# Altium footprint library IC_SMT.PcbLib: 81 footprints (part 3 of 6)
Each footprint in its own frame and in the unit in brackets; x right, y up, seen from the top. Pads: shape width x height; smd on the part's side, far side on the other; paste and mask are expansions set on the pad; w line width, h text height; cw(c..) or ccw(c..) is an arc to the next point about the centre after c.
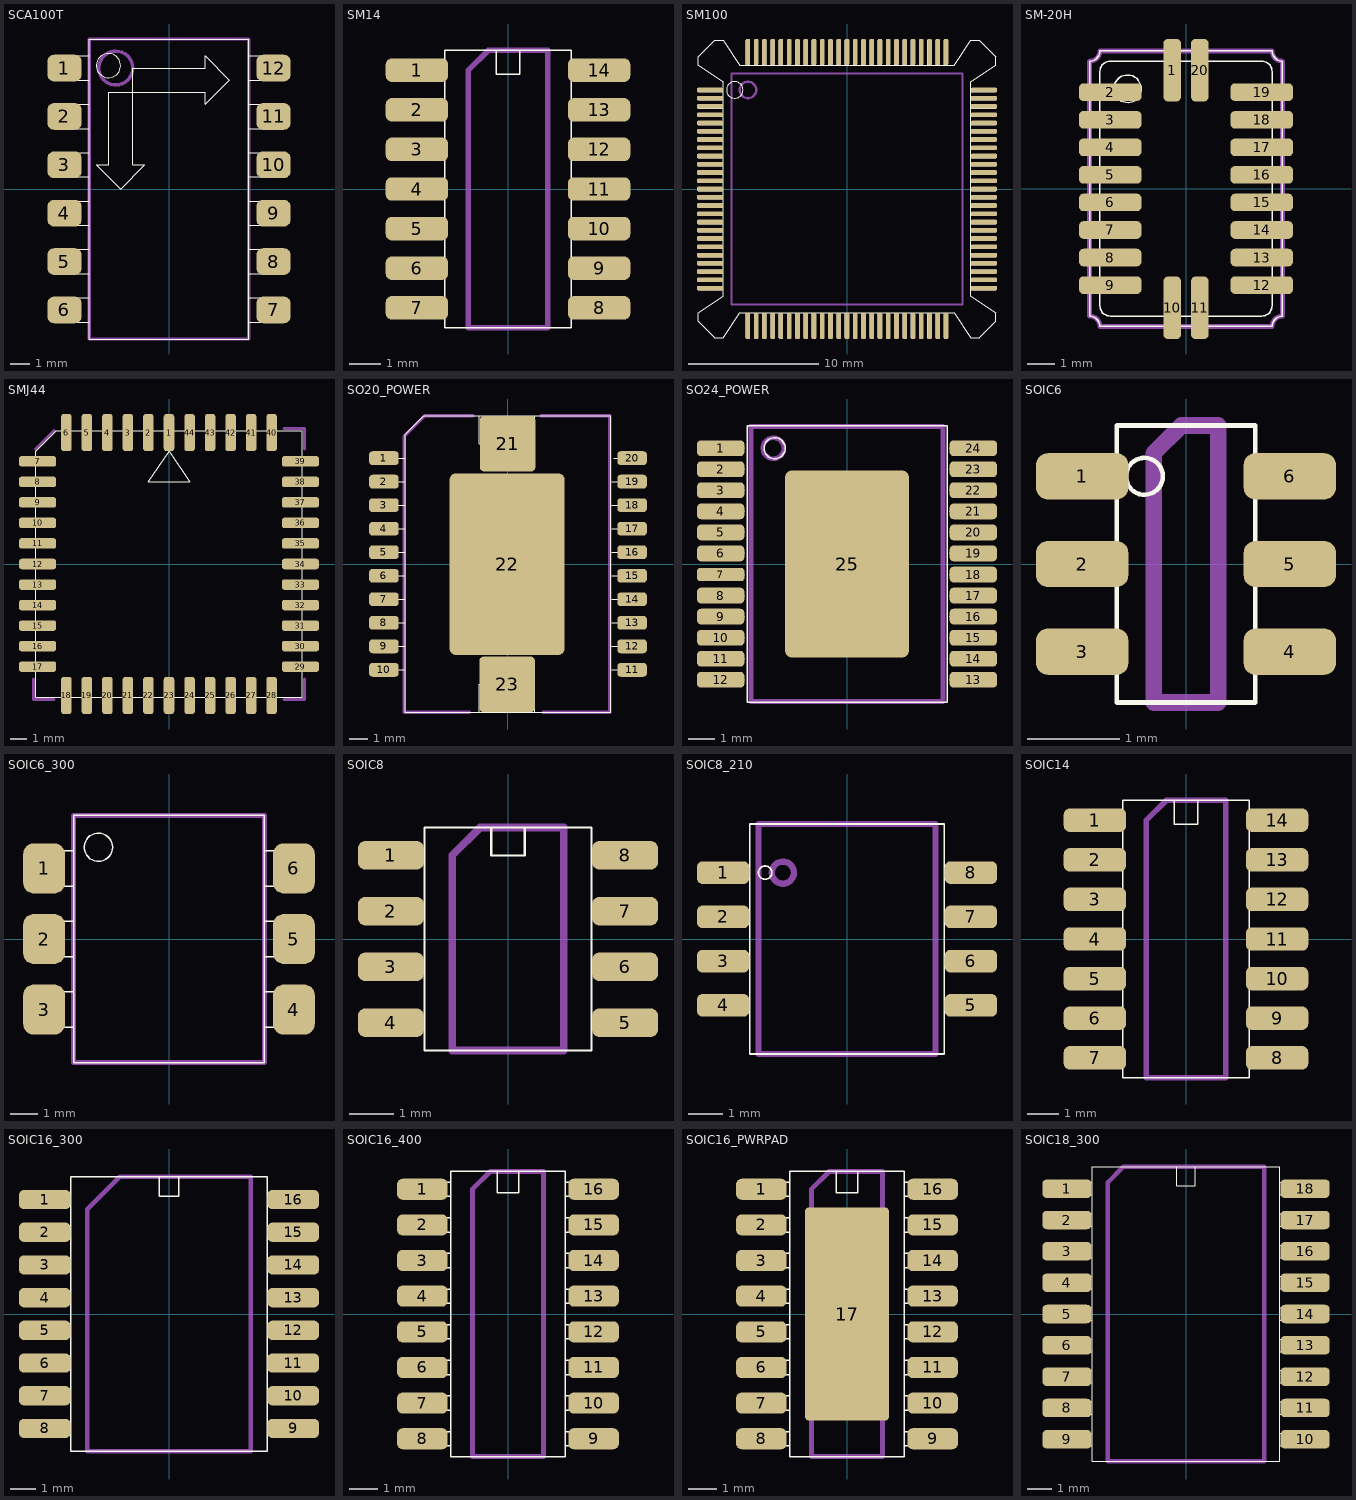
[diagram p2: the footprints below, top view; thin cyan lines are the x and y axes]

## SCA100T [mm]
height 5.08
pads (12):
  rrect50% 1.8x1.4 smd paste+0: 1(-5.486,6.35) 2(-5.486,3.81) 3(-5.486,1.27) 4(-5.486,-1.27) 5(-5.486,-3.81) 6(-5.486,-6.35) 7(5.486,-6.35) 8(5.486,-3.81) 9(5.486,-1.27) 10(5.486,1.27) 11(5.486,3.81) 12(5.486,6.35)
Top Overlay:
  circle w0.05: c-3.175,6.477 r0.635
  lines w0.05: -4.953,-6.604 -5.715,-6.604 -5.715,-6.096 -4.953,-6.096 ; -4.953,-4.064 -5.715,-4.064 -5.715,-3.556 -4.953,-3.556 ; -4.953,-1.524 -5.715,-1.524 -5.715,-1.016 -4.953,-1.016 ; -4.953,1.016 -5.715,1.016 -5.715,1.524 -4.953,1.524 ; -4.953,3.556 -5.715,3.556 -5.715,4.064 -4.953,4.064 ; -4.953,6.096 -5.715,6.096 -5.715,6.604 -4.953,6.604 ; -4.191,-6.985 -4.953,-6.985 -4.953,-5.715 -4.191,-5.715 ; -4.191,-4.445 -4.953,-4.445 -4.953,-3.175 -4.191,-3.175 ; -4.191,-1.905 -4.953,-1.905 -4.953,-0.635 -4.191,-0.635 ; -4.191,0.635 -4.953,0.635 -4.953,1.905 -4.191,1.905 ; -4.191,3.175 -4.953,3.175 -4.953,4.445 -4.191,4.445 ; -4.191,5.715 -4.953,5.715 -4.953,6.985 -4.191,6.985 ; 4.191,-6.985 4.953,-6.985 4.953,-5.715 4.191,-5.715 ; 4.191,-4.445 4.953,-4.445 4.953,-3.175 4.191,-3.175 ; 4.191,-1.905 4.953,-1.905 4.953,-0.635 4.191,-0.635 ; 4.191,0.635 4.953,0.635 4.953,1.905 4.191,1.905 ; 4.191,3.175 4.953,3.175 4.953,4.445 4.191,4.445 ; 4.191,5.715 4.953,5.715 4.953,6.985 4.191,6.985 ; 4.953,-6.604 5.715,-6.604 5.715,-6.096 4.953,-6.096 ; 4.953,-4.064 5.715,-4.064 5.715,-3.556 4.953,-3.556 ; 4.953,-1.524 5.715,-1.524 5.715,-1.016 4.953,-1.016 ; 4.953,1.016 5.715,1.016 5.715,1.524 4.953,1.524 ; 4.953,3.556 5.715,3.556 5.715,4.064 4.953,4.064 ; 4.953,6.096 5.715,6.096 5.715,6.604 4.953,6.604 ; -1.905,5.08 -1.905,1.27 -1.27,1.27 -2.54,0 -3.81,1.27 -3.175,1.27 -3.175,5.08 -1.905,5.08 ; -1.905,5.08 -1.905,6.35 1.905,6.35 1.905,6.985 3.175,5.715 1.905,4.445 1.905,5.08 -1.905,5.08 ; -4.191,-7.874 -4.191,7.874 4.191,7.874 4.191,-7.874 -4.191,-7.874
Comp Silk:
  circle w0.18: c-2.794,6.35 r0.889
  lines w0.18: -4.191,-7.874 -4.191,7.874 4.191,7.874 4.191,-7.874 -4.191,-7.874
  text ".Designator" at -1.524,-7.112 h1.5

## SM14 [mm]
height 1.905
pads (14):
  rrect50% 2x0.75 smd paste+0: 1(-2.921,3.81) 2(-2.921,2.54) 3(-2.921,1.27) 4(-2.921,0) 5(-2.921,-1.27) 6(-2.921,-2.54) 7(-2.921,-3.81) 8(2.921,-3.81) 9(2.921,-2.54) 10(2.921,-1.27) 11(2.921,0) 12(2.921,1.27) 13(2.921,2.54) 14(2.921,3.81)
Top Overlay:
  lines w0.05: -2.032,-4.064 -3.175,-4.064 -3.175,-3.556 -2.032,-3.556 ; -2.032,-2.794 -3.175,-2.794 -3.175,-2.286 -2.032,-2.286 ; -2.032,-1.524 -3.175,-1.524 -3.175,-1.016 -2.032,-1.016 ; -2.032,-0.254 -3.175,-0.254 -3.175,0.254 -2.032,0.254 ; -2.032,1.016 -3.175,1.016 -3.175,1.524 -2.032,1.524 ; -2.032,2.286 -3.175,2.286 -3.175,2.794 -2.032,2.794 ; -2.032,3.556 -3.175,3.556 -3.175,4.064 -2.032,4.064 ; -0.381,4.445 -0.381,3.683 0.381,3.683 0.381,4.445 ; 2.032,-4.064 3.175,-4.064 3.175,-3.556 2.032,-3.556 ; 2.032,-2.794 3.175,-2.794 3.175,-2.286 2.032,-2.286 ; 2.032,-1.524 3.175,-1.524 3.175,-1.016 2.032,-1.016 ; 2.032,-0.254 3.175,-0.254 3.175,0.254 2.032,0.254 ; 2.032,1.016 3.175,1.016 3.175,1.524 2.032,1.524 ; 2.032,2.286 3.175,2.286 3.175,2.794 2.032,2.794 ; 2.032,3.556 3.175,3.556 3.175,4.064 2.032,4.064 ; -2.032,-4.445 -2.032,4.445 2.032,4.445 2.032,-4.445 -2.032,-4.445
Comp Silk:
  lines w0.18: -1.27,-4.445 1.27,-4.445 1.27,4.445 -0.635,4.445 -1.27,3.81 -1.27,-4.445
  text ".Designator" at -0.762,-4.064 h1.5

## SM100 [mm]
height 2.54
pads (100):
  rrect50% 2x0.35 smd paste+0: 1(-10.541,7.62) 2(-10.541,6.985) 3(-10.541,6.35) 4(-10.541,5.715) 5(-10.541,5.08) 6(-10.541,4.445) 7(-10.541,3.81) 8(-10.541,3.175) 9(-10.541,2.54) 10(-10.541,1.905) 11(-10.541,1.27) 12(-10.541,0.635) 13(-10.541,0) 14(-10.541,-0.635) 15(-10.541,-1.27) 16(-10.541,-1.905) 17(-10.541,-2.54) 18(-10.541,-3.175) 19(-10.541,-3.81) 20(-10.541,-4.445) 21(-10.541,-5.08) 22(-10.541,-5.715) 23(-10.541,-6.35) 24(-10.541,-6.985) 25(-10.541,-7.62) 51(10.541,-7.62) 52(10.541,-6.985) 53(10.541,-6.35) 54(10.541,-5.715) 55(10.541,-5.08) 56(10.541,-4.445) 57(10.541,-3.81) 58(10.541,-3.175) 59(10.541,-2.54) 60(10.541,-1.905) 61(10.541,-1.27) 62(10.541,-0.635) 63(10.541,0) 64(10.541,0.635) 65(10.541,1.27) 66(10.541,1.905) 67(10.541,2.54) 68(10.541,3.175) 69(10.541,3.81) 70(10.541,4.445) 71(10.541,5.08) 72(10.541,5.715) 73(10.541,6.35) 74(10.541,6.985) 75(10.541,7.62)
  rrect50% 0.35x2 smd paste+0: 26(-7.62,-10.541) 27(-6.985,-10.541) 28(-6.35,-10.541) 29(-5.715,-10.541) 30(-5.08,-10.541) 31(-4.445,-10.541) 32(-3.81,-10.541) 33(-3.175,-10.541) 34(-2.54,-10.541) 35(-1.905,-10.541) 36(-1.27,-10.541) 37(-0.635,-10.541) 38(0,-10.541) 39(0.635,-10.541) 40(1.27,-10.541) 41(1.905,-10.541) 42(2.54,-10.541) 43(3.175,-10.541) 44(3.81,-10.541) 45(4.445,-10.541) 46(5.08,-10.541) 47(5.715,-10.541) 48(6.35,-10.541) 49(6.985,-10.541) 50(7.62,-10.541) 76(7.62,10.541) 77(6.985,10.541) 78(6.35,10.541) 79(5.715,10.541) 80(5.08,10.541) 81(4.445,10.541) 82(3.81,10.541) 83(3.175,10.541) 84(2.54,10.541) 85(1.905,10.541) 86(1.27,10.541) 87(0.635,10.541) 88(0,10.541) 89(-0.635,10.541) 90(-1.27,10.541) 91(-1.905,10.541) 92(-2.54,10.541) 93(-3.175,10.541) 94(-3.81,10.541) 95(-4.445,10.541) 96(-5.08,10.541) 97(-5.715,10.541) 98(-6.35,10.541) 99(-6.985,10.541) 100(-7.62,10.541)
Top Overlay:
  drawing of 326 lines, arcs and shapes, not listed
Comp Silk:
  lines w0.18: -8.89,-8.89 8.89,-8.89 8.89,8.89 -8.89,8.89 -8.89,-8.89 ; -8.255,7.62 ccw(c-7.62,7.62) -6.985,7.62 ccw(c-7.62,7.62) -8.255,7.62
  text ".Designator" at -6.985,4.953 h1.5

## SM-20H [mm]
height 2.032
pads (20):
  rrect50% 0.65x2.3 smd paste+0: 1(-0.508,4.369) 10(-0.508,-4.394) 11(0.508,-4.394) 20(0.508,4.369)
  rrect50% 2.3x0.65 smd paste+0: 2(-2.794,3.556) 3(-2.794,2.54) 4(-2.794,1.524) 5(-2.794,0.508) 6(-2.794,-0.508) 7(-2.794,-1.524) 8(-2.794,-2.54) 9(-2.794,-3.556) 12(2.794,-3.556) 13(2.794,-2.54) 14(2.794,-1.524) 15(2.794,-0.508) 16(2.794,0.508) 17(2.794,1.524) 18(2.794,2.54) 19(2.794,3.556)
Top Overlay:
  circle w0.05: c-2.159,3.683 r0.508
  lines w0.05: -3.556,-4.699 cw(c-3.556,-5.08) -3.175,-5.08 3.175,-5.08 cw(c3.556,-5.08) 3.556,-4.699 3.556,4.699 cw(c3.556,5.08) 3.175,5.08 -3.175,5.08 cw(c-3.556,5.08) -3.556,4.699 -3.556,-4.699 ; -3.175,-4.318 ccw(c-2.794,-4.318) -2.794,-4.699 2.794,-4.699 ccw(c2.794,-4.318) 3.175,-4.318 3.175,4.318 ccw(c2.794,4.318) 2.794,4.699 -2.794,4.699 ccw(c-2.794,4.318) -3.175,4.318 -3.175,-4.318
Comp Silk:
  lines w0.18: -3.556,-4.699 cw(c-3.556,-5.08) -3.175,-5.08 3.175,-5.08 cw(c3.556,-5.08) 3.556,-4.699 3.556,4.699 cw(c3.556,5.08) 3.175,5.08 -3.175,5.08 cw(c-3.556,5.08) -3.556,4.699 -3.556,-4.699
  text ".Designator" at -1.143,-3.81 h1.5

## SMJ44 [mm]
height 4.572
pads (44):
  rrect50% 0.65x2.3 smd paste+0: 1(0,8.128) 2(-1.27,8.128) 3(-2.54,8.128) 4(-3.81,8.128) 5(-5.08,8.128) 6(-6.35,8.128) 18(-6.35,-8.128) 19(-5.08,-8.128) 20(-3.81,-8.128) 21(-2.54,-8.128) 22(-1.27,-8.128) 23(0,-8.128) 24(1.27,-8.128) 25(2.54,-8.128) 26(3.81,-8.128) 27(5.08,-8.128) 28(6.35,-8.128) 40(6.35,8.128) 41(5.08,8.128) 42(3.81,8.128) 43(2.54,8.128) 44(1.27,8.128)
  rrect50% 2.3x0.65 smd paste+0: 7(-8.128,6.35) 8(-8.128,5.08) 9(-8.128,3.81) 10(-8.128,2.54) 11(-8.128,1.27) 12(-8.128,0) 13(-8.128,-1.27) 14(-8.128,-2.54) 15(-8.128,-3.81) 16(-8.128,-5.08) 17(-8.128,-6.35) 29(8.128,-6.35) 30(8.128,-5.08) 31(8.128,-3.81) 32(8.128,-2.54) 33(8.128,-1.27) 34(8.128,0) 35(8.128,1.27) 36(8.128,2.54) 37(8.128,3.81) 38(8.128,5.08) 39(8.128,6.35)
Top Overlay:
  lines w0.05: -8.255,-8.255 -8.255,6.985 -6.985,8.255 8.255,8.255 8.255,-8.255 -8.255,-8.255 ; -1.27,5.08 0,6.985 1.27,5.08 -1.27,5.08
Comp Silk:
  lines w0.18: -8.382,-7.112 -8.382,-8.382 -7.112,-8.382 ; -8.255,7.112 -7.112,8.255 ; 7.112,-8.382 8.382,-8.382 8.382,-7.112 ; 7.112,8.382 8.382,8.382 8.382,7.112
  text ".Designator" at -6.223,5.08 h1.5

## SO20_POWER [mm] "ST Micro Jedec MO-166 Rev. 1"
height 3.6
pads (23):
  rrect50% 1.6x0.75 smd: 1(-6.7,5.715) 2(-6.7,4.445) 3(-6.7,3.175) 4(-6.7,1.905) 5(-6.7,0.635) 6(-6.7,-0.635) 7(-6.7,-1.905) 8(-6.7,-3.175) 9(-6.7,-4.445) 10(-6.7,-5.715) 11(6.7,-5.715) 12(6.7,-4.445) 13(6.7,-3.175) 14(6.7,-1.905) 15(6.7,-0.635) 16(6.7,0.635) 17(6.7,1.905) 18(6.7,3.175) 19(6.7,4.445) 20(6.7,5.715)
  rrect15% 3x3 smd: 21(-0.025,6.5) 23(-0.05,-6.5)
  rrect10% 6.2x9.8 smd: 22(-0.05,-0.01)
Top Overlay:
  lines w0.05: -6.7,1.905 -6.695,1.9 ; -6.6,-5.715 -5.6,-5.715 ; -6.6,-4.445 -5.6,-4.445 ; -6.6,-3.175 -5.6,-3.175 ; -6.6,-1.905 -5.6,-1.905 ; -6.6,-0.635 -5.6,-0.635 ; -6.6,0.635 -5.6,0.635 ; -6.6,3.175 -5.6,3.175 ; -6.6,4.445 -5.6,4.445 ; -6.6,5.715 -5.6,5.715 ; -6.345,1.9 -5.855,1.9 ; -5.955,1.9 -5.95,1.905 ; -5.85,1.905 -5.6,1.905 ; 5.6,-5.715 6.6,-5.715 ; 5.6,-4.445 6.6,-4.445 ; 5.6,-3.175 6.6,-3.175 ; 5.6,-1.905 6.6,-1.905 ; 5.6,-0.635 6.6,-0.635 ; 5.6,0.635 6.6,0.635 ; 5.6,1.905 6.6,1.905 ; 5.6,3.175 6.6,3.175 ; 5.6,4.445 6.6,4.445 ; 5.7,5.715 6.7,5.715 ; -1.55,-8 -1.55,-6.5 1.45,-6.5 1.45,-8 ; -1.55,-8 -5.55,-8 -5.55,7 -4.55,8 -1.55,8 ; -1.55,-8 1.45,-8 ; -1.55,8 -1.55,6.5 1.45,6.5 1.45,8 ; -1.55,8 1.45,8 ; 1.45,-8 5.55,-8 5.55,8 1.45,8
Top Solder:
  rectangle: -3.2,-5 3.1,5
  rectangle: -1.7,-8.1 1.6,-4.9
  rectangle: -1.6,4.9 1.6,8.1
Comp Silk:
  lines w0.18: -2.1,-8 -5.6,-8 -5.6,-6.4 -5.6,6.9 -5.5,7 -4.5,8 -1.9,8 ; 1.8,8 5.5,8 5.5,-8 1.9,-8
  text ".Designator" at -6.8,-0.3 h1.5

## SO24_POWER [mm] "ST Micro, Rev. 1"
height 2.47
pads (25):
  rrect50% 1.8x0.6 smd mask+0.065: 1(-4.8,4.4) 2(-4.8,3.6) 3(-4.8,2.8) 4(-4.8,2) 5(-4.8,1.2) 6(-4.8,0.4) 8(-4.8,-1.2) 9(-4.8,-2) 10(-4.8,-2.8) 11(-4.8,-3.6) 12(-4.8,-4.4) 13(4.8,-4.4) 14(4.8,-3.6) 15(4.8,-2.8) 16(4.8,-2) 17(4.8,-1.2) 18(4.8,-0.4) 19(4.8,0.4) 20(4.8,1.2) 21(4.8,2) 22(4.8,2.8) 23(4.8,3.6) 24(4.8,4.4)
  rrect50% 1.8x0.51 smd mask+0.065: 7(-4.8,-0.4)
  rrect10% 4.7x7.1 smd mask+0.065: 25(0,0)
Top Overlay:
  circle w0.05: c-2.75,4.4 r0.4
  lines w0.05: -4.45,-4.4 -3.9,-4.4 ; -4.45,-3.6 -3.9,-3.6 ; -4.45,-2.8 -3.9,-2.8 ; -4.45,-2 -3.9,-2 ; -4.45,-1.2 -3.9,-1.2 ; -4.45,-0.4 -3.9,-0.4 ; -4.45,0.4 -3.9,0.4 ; -4.45,1.2 -3.9,1.2 ; -4.45,2 -3.9,2 ; -4.45,2.8 -3.9,2.8 ; -4.45,3.6 -3.9,3.6 ; -4.45,4.4 -3.9,4.4 ; 3.9,-4.4 4.45,-4.4 ; 3.9,-3.6 4.45,-3.6 ; 3.9,-2.8 4.45,-2.8 ; 3.9,-2 4.45,-2 ; 3.9,-1.2 4.45,-1.2 ; 3.9,-0.4 4.45,-0.4 ; 3.9,0.4 4.45,0.4 ; 3.9,1.2 4.45,1.2 ; 3.9,2 4.45,2 ; 3.9,2.8 4.45,2.8 ; 3.9,3.6 4.45,3.6 ; 3.9,4.4 4.45,4.4 ; -3.8,-5.25 3.8,-5.25 3.8,5.25 -3.8,5.25 -3.8,-5.25
Comp Silk:
  circle w0.18: c-2.8,4.4 r0.4
  lines w0.18: -3.675,5.225 3.65,5.225 3.65,-5.225 -3.65,-5.225 -3.65,5.225
  text ".Designator" at -3.4,-0.425 h1.5

## SOIC6 [mm]
height 1.5
pads (6):
  rrect50% 1x0.5 smd paste+0: 1(-1.125,0.95) 2(-1.125,0) 3(-1.125,-0.95) 4(1.125,-0.95) 5(1.125,0) 6(1.125,0.95)
Top Overlay:
  circle w0.05: c-0.45,0.95 r0.2
  lines w0.05: -0.76,-1.1 -1.4,-1.1 -1.4,-0.8 -0.75,-0.8 ; -0.75,-0.15 -1.4,-0.15 -1.4,0.15 -0.75,0.15 ; -0.75,0.8 -1.4,0.8 -1.4,1.1 -0.75,1.1 ; 0.75,-1.1 1.4,-1.1 1.4,-0.8 0.75,-0.8 ; 0.75,-0.15 1.4,-0.15 1.4,0.15 0.75,0.15 ; 0.75,0.8 1.4,0.8 1.4,1.1 0.75,1.1 ; -0.75,-1.5 0.75,-1.5 0.75,1.5 -0.75,1.5 -0.75,-1.5
Comp Silk:
  lines w0.18: -0.35,-1.5 0.35,-1.5 0.35,1.5 -0.05,1.5 -0.35,1.2 -0.35,-1.5
  text ".Designator" at 0,-1.627 h1.5

## SOIC6_300 [mm]
height 5
pads (6):
  rrect50% 1.5x1.8 smd paste+0: 1(-4.496,2.54) 2(-4.496,0) 3(-4.496,-2.54) 4(4.496,-2.54) 5(4.496,0) 6(4.496,2.54)
Top Overlay:
  circle w0.05: c-2.54,3.302 r0.508
  lines w0.05: -3.429,-3.175 -3.81,-3.175 -4.318,-2.794 -4.953,-2.794 -4.953,-2.286 -4.318,-2.286 -3.81,-1.905 -3.429,-1.905 ; -3.429,-0.635 -3.81,-0.635 -4.318,-0.254 -4.953,-0.254 -4.953,0.254 -4.318,0.254 -3.81,0.635 -3.429,0.635 ; -3.429,1.905 -3.81,1.905 -4.318,2.286 -4.953,2.286 -4.953,2.794 -4.318,2.794 -3.81,3.175 -3.429,3.175 ; 3.429,-3.175 3.81,-3.175 4.318,-2.794 4.953,-2.794 4.953,-2.286 4.318,-2.286 3.81,-1.905 3.429,-1.905 ; 3.429,-0.635 3.81,-0.635 4.318,-0.254 4.953,-0.254 4.953,0.254 4.318,0.254 3.81,0.635 3.429,0.635 ; 3.429,1.905 3.81,1.905 4.318,2.286 4.953,2.286 4.953,2.794 4.318,2.794 3.81,3.175 3.429,3.175 ; -3.429,-4.445 3.429,-4.445 3.429,4.445 -3.429,4.445 -3.429,-4.445
Comp Silk:
  lines w0.18: -3.429,-4.445 3.429,-4.445 3.429,4.445 -3.429,4.445 -3.429,-4.445
  text ".Designator" at -1.27,-3.81 h1.5

## SOIC8 [mm]
height 1.1
pads (8):
  rrect50% 1.5x0.65 smd: 1(-2.667,1.905) 2(-2.667,0.635) 3(-2.667,-0.635) 4(-2.667,-1.905) 5(2.667,-1.905) 6(2.667,-0.635) 7(2.667,0.635) 8(2.667,1.905)
Top Overlay:
  lines w0.05: -1.905,-2.032 -2.667,-2.032 -2.667,-1.778 -1.905,-1.778 ; -1.905,-0.762 -2.667,-0.762 -2.667,-0.508 -1.905,-0.508 ; -1.905,0.508 -2.667,0.508 -2.667,0.762 -1.905,0.762 ; -1.905,1.778 -2.667,1.778 -2.667,2.032 -1.905,2.032 ; -0.381,2.54 -0.381,1.905 0.381,1.905 0.381,2.54 ; 1.905,-2.032 2.667,-2.032 2.667,-1.778 1.905,-1.778 ; 1.905,-0.762 2.667,-0.762 2.667,-0.508 1.905,-0.508 ; 1.905,0.508 2.667,0.508 2.667,0.762 1.905,0.762 ; 1.905,1.778 2.667,1.778 2.667,2.032 1.905,2.032 ; -1.905,-2.54 1.905,-2.54 1.905,2.54 -1.27,2.54 -1.905,2.54 -1.905,-2.54
Comp Silk:
  lines w0.18: -1.27,-2.54 1.27,-2.54 1.27,2.54 -0.635,2.54 -1.27,1.905 -1.27,-2.54
  text ".Designator" at 0.2,-2.4 h1.5

## SOIC8_210 [mm]
height 1.905
pads (8):
  rrect50% 1.5x0.65 smd paste+0: 1(-3.556,1.905) 2(-3.556,0.635) 3(-3.556,-0.635) 4(-3.556,-1.905) 5(3.556,-1.905) 6(3.556,-0.635) 7(3.556,0.635) 8(3.556,1.905)
Top Overlay:
  lines w0.05: -2.794,-2.032 -3.81,-2.032 -3.81,-1.778 -2.794,-1.778 ; -2.794,-0.762 -3.81,-0.762 -3.81,-0.508 -2.794,-0.508 ; -2.794,0.508 -3.81,0.508 -3.81,0.762 -2.794,0.762 ; -2.794,1.778 -3.81,1.778 -3.81,2.032 -2.794,2.032 ; 2.794,-2.032 3.81,-2.032 3.81,-1.778 2.794,-1.778 ; 2.794,-0.762 3.81,-0.762 3.81,-0.508 2.794,-0.508 ; 2.794,0.508 3.81,0.508 3.81,0.762 2.794,0.762 ; 2.794,1.778 3.81,1.778 3.81,2.032 2.794,2.032 ; -2.794,-3.302 2.794,-3.302 2.794,3.302 -2.794,3.302 -2.794,-3.302 ; -2.54,1.905 ccw(c-2.349,1.905) -2.159,1.905 ccw(c-2.349,1.905) -2.54,1.905
Comp Silk:
  lines w0.18: -2.54,-3.302 2.54,-3.302 2.54,3.302 -2.54,3.302 -2.54,-3.302 ; -2.159,1.905 ccw(c-1.841,1.905) -1.524,1.905 ccw(c-1.841,1.905) -2.159,1.905
  text ".Designator" at -0.889,-3.048 h1.5

## SOIC14 [mm]
height 1.905
pads (14):
  rrect50% 2x0.75 smd paste+0: 1(-2.921,3.81) 2(-2.921,2.54) 3(-2.921,1.27) 4(-2.921,0) 5(-2.921,-1.27) 6(-2.921,-2.54) 7(-2.921,-3.81) 8(2.921,-3.81) 9(2.921,-2.54) 10(2.921,-1.27) 11(2.921,0) 12(2.921,1.27) 13(2.921,2.54) 14(2.921,3.81)
Top Overlay:
  lines w0.05: -2.032,-4.064 -3.175,-4.064 -3.175,-3.556 -2.032,-3.556 ; -2.032,-2.794 -3.175,-2.794 -3.175,-2.286 -2.032,-2.286 ; -2.032,-1.524 -3.175,-1.524 -3.175,-1.016 -2.032,-1.016 ; -2.032,-0.254 -3.175,-0.254 -3.175,0.254 -2.032,0.254 ; -2.032,1.016 -3.175,1.016 -3.175,1.524 -2.032,1.524 ; -2.032,2.286 -3.175,2.286 -3.175,2.794 -2.032,2.794 ; -2.032,3.556 -3.175,3.556 -3.175,4.064 -2.032,4.064 ; -0.381,4.445 -0.381,3.683 0.381,3.683 0.381,4.445 ; 2.032,-4.064 3.175,-4.064 3.175,-3.556 2.032,-3.556 ; 2.032,-2.794 3.175,-2.794 3.175,-2.286 2.032,-2.286 ; 2.032,-1.524 3.175,-1.524 3.175,-1.016 2.032,-1.016 ; 2.032,-0.254 3.175,-0.254 3.175,0.254 2.032,0.254 ; 2.032,1.016 3.175,1.016 3.175,1.524 2.032,1.524 ; 2.032,2.286 3.175,2.286 3.175,2.794 2.032,2.794 ; 2.032,3.556 3.175,3.556 3.175,4.064 2.032,4.064 ; -2.032,-4.445 2.032,-4.445 2.032,4.445 -2.032,4.445 -2.032,-4.445
Comp Silk:
  lines w0.18: -1.27,-4.445 -1.27,3.81 -0.635,4.445 1.27,4.445 1.27,-4.445 -1.27,-4.445
  text ".Designator" at -0.762,-4.064 h1.5

## SOIC16_300 [mm]
height 1.905
pads (16):
  rrect50% 2x0.75 smd paste+0: 1(-4.826,4.445) 2(-4.826,3.175) 3(-4.826,1.905) 4(-4.826,0.635) 5(-4.826,-0.635) 6(-4.826,-1.905) 7(-4.826,-3.175) 8(-4.826,-4.445) 9(4.826,-4.445) 10(4.826,-3.175) 11(4.826,-1.905) 12(4.826,-0.635) 13(4.826,0.635) 14(4.826,1.905) 15(4.826,3.175) 16(4.826,4.445)
Top Overlay:
  lines w0.05: -3.81,-4.699 -5.334,-4.699 -5.334,-4.191 -3.81,-4.191 ; -3.81,-3.429 -5.334,-3.429 -5.334,-2.921 -3.81,-2.921 ; -3.81,-2.159 -5.334,-2.159 -5.334,-1.651 -3.81,-1.651 ; -3.81,-0.889 -5.334,-0.889 -5.334,-0.381 -3.81,-0.381 ; -3.81,0.381 -5.334,0.381 -5.334,0.889 -3.81,0.889 ; -3.81,1.651 -5.334,1.651 -5.334,2.159 -3.81,2.159 ; -3.81,2.921 -5.334,2.921 -5.334,3.429 -3.81,3.429 ; -3.81,4.191 -5.334,4.191 -5.334,4.699 -3.81,4.699 ; -0.381,5.334 -0.381,4.572 0.381,4.572 0.381,5.334 ; 3.81,-4.699 5.334,-4.699 5.334,-4.191 3.81,-4.191 ; 3.81,-3.429 5.334,-3.429 5.334,-2.921 3.81,-2.921 ; 3.81,-2.159 5.334,-2.159 5.334,-1.651 3.81,-1.651 ; 3.81,-0.889 5.334,-0.889 5.334,-0.381 3.81,-0.381 ; 3.81,0.381 5.334,0.381 5.334,0.889 3.81,0.889 ; 3.81,1.651 5.334,1.651 5.334,2.159 3.81,2.159 ; 3.81,2.921 5.334,2.921 5.334,3.429 3.81,3.429 ; 3.81,4.191 5.334,4.191 5.334,4.699 3.81,4.699 ; -3.81,-5.334 3.81,-5.334 3.81,5.334 -3.81,5.334 -3.81,-5.334
Comp Silk:
  lines w0.18: -3.175,-5.334 3.175,-5.334 3.175,5.334 -1.905,5.334 -3.175,4.064 -3.175,-5.334
  text ".Designator" at -1.397,-5.207 h1.5

## SOIC16_400 [mm] "Texas 16 pin, 1.27mm pitch, SOIC, 4.00 wide, Rev. 1"
height 1.75
pads (16):
  rrect50% 1.8x0.75 smd paste+0: 1(-3.048,4.445) 2(-3.048,3.175) 3(-3.048,1.905) 4(-3.048,0.635) 5(-3.048,-0.635) 6(-3.048,-1.905) 7(-3.048,-3.175) 8(-3.048,-4.445) 9(3.048,-4.445) 10(3.048,-3.175) 11(3.048,-1.905) 12(3.048,-0.635) 13(3.048,0.635) 14(3.048,1.905) 15(3.048,3.175) 16(3.048,4.445)
Top Overlay:
  lines w0.05: -2.032,-4.699 -3.175,-4.699 -3.175,-4.191 -2.032,-4.191 ; -2.032,-3.429 -3.175,-3.429 -3.175,-2.921 -2.032,-2.921 ; -2.032,-2.159 -3.175,-2.159 -3.175,-1.651 -2.032,-1.651 ; -2.032,-0.889 -3.175,-0.889 -3.175,-0.381 -2.032,-0.381 ; -2.032,0.381 -3.175,0.381 -3.175,0.889 -2.032,0.889 ; -2.032,1.651 -3.175,1.651 -3.175,2.159 -2.032,2.159 ; -2.032,2.921 -3.175,2.921 -3.175,3.429 -2.032,3.429 ; -2.032,4.191 -3.175,4.191 -3.175,4.699 -2.032,4.699 ; -0.381,5.08 -0.381,4.318 0.381,4.318 0.381,5.08 ; 2.032,-4.699 3.175,-4.699 3.175,-4.191 2.032,-4.191 ; 2.032,-3.429 3.175,-3.429 3.175,-2.921 2.032,-2.921 ; 2.032,-2.159 3.175,-2.159 3.175,-1.651 2.032,-1.651 ; 2.032,-0.889 3.175,-0.889 3.175,-0.381 2.032,-0.381 ; 2.032,0.381 3.175,0.381 3.175,0.889 2.032,0.889 ; 2.032,1.651 3.175,1.651 3.175,2.159 2.032,2.159 ; 2.032,2.921 3.175,2.921 3.175,3.429 2.032,3.429 ; 2.032,4.191 3.175,4.191 3.175,4.699 2.032,4.699 ; -2.032,-5.08 -2.032,5.08 2.032,5.08 2.032,-5.08 -2.032,-5.08
  text ".Designator" at 0.467,-5.801 h1.5
Comp Silk:
  lines w0.18: -1.27,-5.08 -1.27,4.445 -0.635,5.08 1.27,5.08 1.27,-5.08 -1.27,-5.08

## SOIC16_PWRPAD [mm]
height 1.905
pads (17):
  rrect50% 1.8x0.75 smd paste+0: 1(-3.048,4.445) 2(-3.048,3.175) 3(-3.048,1.905) 4(-3.048,0.635) 5(-3.048,-0.635) 6(-3.048,-1.905) 7(-3.048,-3.175) 8(-3.048,-4.445) 9(3.048,-4.445) 10(3.048,-3.175) 11(3.048,-1.905) 12(3.048,-0.635) 13(3.048,0.635) 14(3.048,1.905) 15(3.048,3.175) 16(3.048,4.445)
  rrect10% 3x7.6 smd paste+0: 17(0,0)
Top Overlay:
  lines w0.05: -2.032,-4.699 -3.175,-4.699 -3.175,-4.191 -2.032,-4.191 ; -2.032,-3.429 -3.175,-3.429 -3.175,-2.921 -2.032,-2.921 ; -2.032,-2.159 -3.175,-2.159 -3.175,-1.651 -2.032,-1.651 ; -2.032,-0.889 -3.175,-0.889 -3.175,-0.381 -2.032,-0.381 ; -2.032,0.381 -3.175,0.381 -3.175,0.889 -2.032,0.889 ; -2.032,1.651 -3.175,1.651 -3.175,2.159 -2.032,2.159 ; -2.032,2.921 -3.175,2.921 -3.175,3.429 -2.032,3.429 ; -2.032,4.191 -3.175,4.191 -3.175,4.699 -2.032,4.699 ; -0.381,5.08 -0.381,4.318 0.381,4.318 0.381,5.08 ; 2.032,-4.699 3.175,-4.699 3.175,-4.191 2.032,-4.191 ; 2.032,-3.429 3.175,-3.429 3.175,-2.921 2.032,-2.921 ; 2.032,-2.159 3.175,-2.159 3.175,-1.651 2.032,-1.651 ; 2.032,-0.889 3.175,-0.889 3.175,-0.381 2.032,-0.381 ; 2.032,0.381 3.175,0.381 3.175,0.889 2.032,0.889 ; 2.032,1.651 3.175,1.651 3.175,2.159 2.032,2.159 ; 2.032,2.921 3.175,2.921 3.175,3.429 2.032,3.429 ; 2.032,4.191 3.175,4.191 3.175,4.699 2.032,4.699 ; -2.032,-5.08 -2.032,5.08 2.032,5.08 2.032,-5.08 -2.032,-5.08
Comp Silk:
  lines w0.18: -1.27,-5.08 -1.27,4.445 -0.635,5.08 1.27,5.08 1.27,-5.08 -1.27,-5.08
  text ".Designator" at -0.508,-4.826 h1.5

## SOIC18_300 [mm]
height 1.905
pads (18):
  rrect50% 2x0.75 smd paste+0: 1(-4.826,5.08) 2(-4.826,3.81) 3(-4.826,2.54) 4(-4.826,1.27) 5(-4.826,0) 6(-4.826,-1.27) 7(-4.826,-2.54) 8(-4.826,-3.81) 9(-4.826,-5.08) 10(4.826,-5.08) 11(4.826,-3.81) 12(4.826,-2.54) 13(4.826,-1.27) 14(4.826,0) 15(4.826,1.27) 16(4.826,2.54) 17(4.826,3.81) 18(4.826,5.08)
Top Overlay:
  lines w0.05: -3.81,-5.334 -5.334,-5.334 -5.334,-4.826 -3.81,-4.826 ; -3.81,-4.064 -5.334,-4.064 -5.334,-3.556 -3.81,-3.556 ; -3.81,-2.794 -5.334,-2.794 -5.334,-2.286 -3.81,-2.286 ; -3.81,-1.524 -5.334,-1.524 -5.334,-1.016 -3.81,-1.016 ; -3.81,-0.254 -5.334,-0.254 -5.334,0.254 -3.81,0.254 ; -3.81,1.016 -5.334,1.016 -5.334,1.524 -3.81,1.524 ; -3.81,2.286 -5.334,2.286 -5.334,2.794 -3.81,2.794 ; -3.81,3.556 -5.334,3.556 -5.334,4.064 -3.81,4.064 ; -3.81,4.826 -5.334,4.826 -5.334,5.334 -3.81,5.334 ; -0.381,5.969 -0.381,5.207 0.381,5.207 0.381,5.969 ; 3.81,-5.334 5.334,-5.334 5.334,-4.826 3.81,-4.826 ; 3.81,-4.064 5.334,-4.064 5.334,-3.556 3.81,-3.556 ; 3.81,-2.794 5.334,-2.794 5.334,-2.286 3.81,-2.286 ; 3.81,-1.524 5.334,-1.524 5.334,-1.016 3.81,-1.016 ; 3.81,-0.254 5.334,-0.254 5.334,0.254 3.81,0.254 ; 3.81,1.016 5.334,1.016 5.334,1.524 3.81,1.524 ; 3.81,2.286 5.334,2.286 5.334,2.794 3.81,2.794 ; 3.81,3.556 5.334,3.556 5.334,4.064 3.81,4.064 ; 3.81,4.826 5.334,4.826 5.334,5.334 3.81,5.334 ; -3.81,-5.969 3.81,-5.969 3.81,5.969 -3.81,5.969 -3.81,-5.969
Comp Silk:
  lines w0.18: -3.175,-5.969 3.175,-5.969 3.175,5.969 -2.54,5.969 -3.175,5.334 -3.175,-5.969
  text ".Designator" at -1.143,-5.461 h1.5